# Altium footprint library MK64FN1M0VLQ12.PcbLib: 3 footprints
Each footprint in its own frame and in the unit in brackets; x right, y up, seen from the top. Pads: shape width x height; smd on the part's side, far side on the other; paste and mask are expansions set on the pad; w line width, h text height; cw(c..) or ccw(c..) is an arc to the next point about the centre after c.
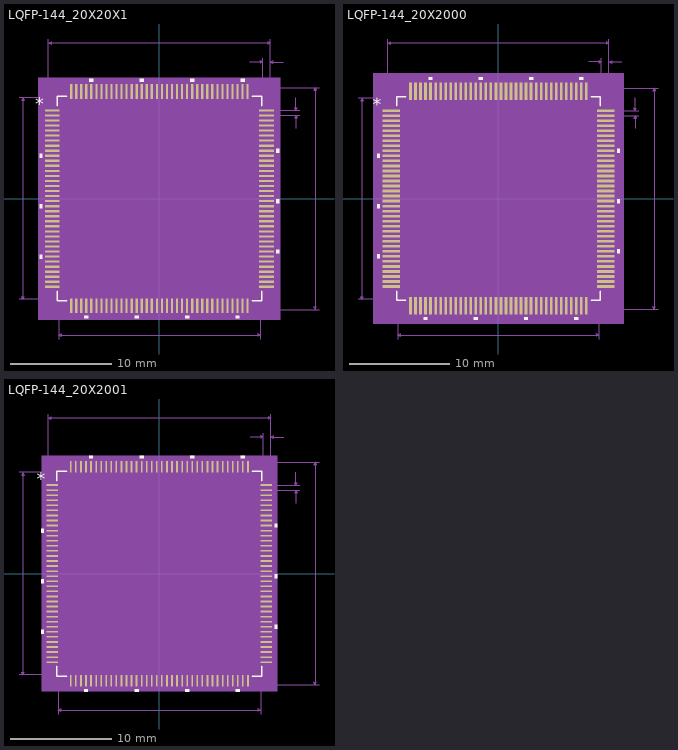
[diagram p0: the footprints below, top view; thin cyan lines are the x and y axes]

## LQFP-144_20X20X1 [mm]
pads (144):
  rect 1.461x0.219 smd paste+0 mask+0: 1(-10.625,8.75) 2(-10.625,8.25) 3(-10.625,7.75) 4(-10.625,7.25) 5(-10.625,6.75) 6(-10.625,6.25) 7(-10.625,5.75) 8(-10.625,5.25) 9(-10.625,4.75) 10(-10.625,4.25) 11(-10.625,3.75) 12(-10.625,3.25) 13(-10.625,2.75) 14(-10.625,2.25) 15(-10.625,1.75) 16(-10.625,1.25) 17(-10.625,0.75) 18(-10.625,0.25) 19(-10.625,-0.25) 20(-10.625,-0.75) 21(-10.625,-1.25) 22(-10.625,-1.75) 23(-10.625,-2.25) 24(-10.625,-2.75) 25(-10.625,-3.25) 26(-10.625,-3.75) 27(-10.625,-4.25) 28(-10.625,-4.75) 29(-10.625,-5.25) 30(-10.625,-5.75) 31(-10.625,-6.25) 32(-10.625,-6.75) 33(-10.625,-7.25) 34(-10.625,-7.75) 35(-10.625,-8.25) 36(-10.625,-8.75) 73(10.625,-8.75) 74(10.625,-8.25) 75(10.625,-7.75) 76(10.625,-7.25) 77(10.625,-6.75) 78(10.625,-6.25) 79(10.625,-5.75) 80(10.625,-5.25) 81(10.625,-4.75) 82(10.625,-4.25) 83(10.625,-3.75) 84(10.625,-3.25) 85(10.625,-2.75) 86(10.625,-2.25) 87(10.625,-1.75) 88(10.625,-1.25) 89(10.625,-0.75) 90(10.625,-0.25) 91(10.625,0.25) 92(10.625,0.75) 93(10.625,1.25) 94(10.625,1.75) 95(10.625,2.25) 96(10.625,2.75) 97(10.625,3.25) 98(10.625,3.75) 99(10.625,4.25) 100(10.625,4.75) 101(10.625,5.25) 102(10.625,5.75) 103(10.625,6.25) 104(10.625,6.75) 105(10.625,7.25) 106(10.625,7.75) 107(10.625,8.25) 108(10.625,8.75)
  rect 0.219x1.461 smd paste+0 mask+0: 37(-8.75,-10.625) 38(-8.25,-10.625) 39(-7.75,-10.625) 40(-7.25,-10.625) 41(-6.75,-10.625) 42(-6.25,-10.625) 43(-5.75,-10.625) 44(-5.25,-10.625) 45(-4.75,-10.625) 46(-4.25,-10.625) 47(-3.75,-10.625) 48(-3.25,-10.625) 49(-2.75,-10.625) 50(-2.25,-10.625) 51(-1.75,-10.625) 52(-1.25,-10.625) 53(-0.75,-10.625) 54(-0.25,-10.625) 55(0.25,-10.625) 56(0.75,-10.625) 57(1.25,-10.625) 58(1.75,-10.625) 59(2.25,-10.625) 60(2.75,-10.625) 61(3.25,-10.625) 62(3.75,-10.625) 63(4.25,-10.625) 64(4.75,-10.625) 65(5.25,-10.625) 66(5.75,-10.625) 67(6.25,-10.625) 68(6.75,-10.625) 69(7.25,-10.625) 70(7.75,-10.625) 71(8.25,-10.625) 72(8.75,-10.625) 109(8.75,10.625) 110(8.25,10.625) 111(7.75,10.625) 112(7.25,10.625) 113(6.75,10.625) 114(6.25,10.625) 115(5.75,10.625) 116(5.25,10.625) 117(4.75,10.625) 118(4.25,10.625) 119(3.75,10.625) 120(3.25,10.625) 121(2.75,10.625) 122(2.25,10.625) 123(1.75,10.625) 124(1.25,10.625) 125(0.75,10.625) 126(0.25,10.625) 127(-0.25,10.625) 128(-0.75,10.625) 129(-1.25,10.625) 130(-1.75,10.625) 131(-2.25,10.625) 132(-2.75,10.625) 133(-3.25,10.625) 134(-3.75,10.625) 135(-4.25,10.625) 136(-4.75,10.625) 137(-5.25,10.625) 138(-5.75,10.625) 139(-6.25,10.625) 140(-6.75,10.625) 141(-7.25,10.625) 142(-7.75,10.625) 143(-8.25,10.625) 144(-8.75,10.625)
Top Overlay:
  region: -11.61,4.44 -11.864,4.44 -11.864,4.059 -11.61,4.059
  region: -11.61,-0.56 -11.864,-0.56 -11.864,-0.941 -11.61,-0.941
  region: -11.61,-5.56 -11.864,-5.56 -11.864,-5.941 -11.61,-5.941
  region: -7.06,-11.61 -7.441,-11.61 -7.441,-11.864 -7.06,-11.864
  region: -2.06,-11.61 -2.441,-11.61 -2.441,-11.864 -2.06,-11.864
  region: 2.94,-11.61 2.559,-11.61 2.559,-11.864 2.94,-11.864
  region: 7.94,-11.61 7.559,-11.61 7.559,-11.864 7.94,-11.864
  region: 11.61,-5.059 11.864,-5.059 11.864,-5.44 11.61,-5.44
  region: 11.61,-0.059 11.864,-0.059 11.864,-0.44 11.61,-0.44
  region: 11.61,4.941 11.864,4.941 11.864,4.56 11.61,4.56
  region: 8.441,11.61 8.06,11.61 8.06,11.864 8.441,11.864
  region: 3.441,11.61 3.06,11.61 3.06,11.864 3.441,11.864
  region: -1.559,11.61 -1.94,11.61 -1.94,11.864 -1.559,11.864
  region: -6.559,11.61 -6.94,11.61 -6.94,11.864 -6.559,11.864
  lines w0.152: -10.127,-9.192 -10.127,-10.127 -9.192,-10.127 ; -10.127,9.192 -10.127,10.127 -9.192,10.127 ; 9.192,-10.127 10.127,-10.127 10.127,-9.192 ; 9.192,10.127 10.127,10.127 10.127,9.192
  text "*" at -12.308,8.746 h1.27
Mechanical 5:
  region: 11.991,-11.991 -11.991,-11.991 -11.991,11.991 11.991,11.991
Mechanical 7:
  lines w0.025: -13.921,-10 -8.75,-10 ; -13.921,10 -8.75,10 ; -11,8.75 -11,15.826 ; -10,-13.921 -10,-8.75 ; 8.75,-11 15.826,-11 ; 8.75,11 15.826,11 ; 8.98,13.54 10.25,13.54 ; 10,-13.921 10,-8.75 ; 10.25,8.75 10.25,13.921 ; 10.625,8.25 13.921,8.25 ; 10.625,8.75 13.921,8.75 ; 11,13.921 11,8.75 11,15.826 ; 12.27,13.54 11,13.54 ; 13.54,6.98 13.54,8.25 ; 13.54,10.02 13.54,8.75 ; -13.54,-10 -13.54,10 ; -13.54,-10 -13.667,-9.746 -13.413,-9.746 -13.54,-10 ; -13.54,10 -13.667,9.746 -13.413,9.746 -13.54,10 ; -11,15.445 11,15.445 ; -11,15.445 -10.746,15.572 -10.746,15.318 -11,15.445 ; -10,-13.54 10,-13.54 ; -10,-13.54 -9.746,-13.413 -9.746,-13.667 -10,-13.54 ; 10,-13.54 9.746,-13.413 9.746,-13.667 10,-13.54 ; 10.25,13.54 9.996,13.667 9.996,13.413 10.25,13.54 ; 11,13.54 11.254,13.667 11.254,13.413 11,13.54 ; 11,15.445 10.746,15.572 10.746,15.318 11,15.445 ; 13.54,8.25 13.413,7.996 13.667,7.996 13.54,8.25 ; 13.54,8.75 13.413,9.004 13.667,9.004 13.54,8.75 ; 15.445,-11 15.445,11 ; 15.445,-11 15.318,-10.746 15.572,-10.746 15.445,-11 ; 15.445,11 15.318,10.746 15.572,10.746 15.445,11
  text "Default Horiz Padstyle: RX8p63Y57p53D0T" at -12.383,-17.35 h1.27
  text "Default Vert Padstyle: RX8p63Y57p53D0T" at -12.065,-18.874 h1.27
  text "Alt 1 Padstyle: OX60Y90D30P" at -8.572,-23.446 h1.27
  text "Alt 2 Padstyle: OX90Y60D30P" at -8.572,-24.97 h1.27
  text "0.02in/0.5mm" at 14.048,8.183 h0.64
  text "0.03in/0.75mm" at 8.561,14.048 h0.64
  text "0.866in/22mm" at -1.905,15.953 h0.64
  text "0.787in/20mm" at -1.905,-14.683 h0.64
  text "0.787in/20mm" at -17.858,-0.318 h0.64
  text "0.866in/22mm" at 15.953,-0.318 h0.64
Mechanical 13:
  drawing of 585 lines, arcs and shapes, not listed
  text "*" at -9.937,8.365 h1.27
Mechanical 15:
  region: -9.114,-10.254 -10.254,-10.254 -10.254,-9.114 -11.61,-9.114 -11.61,9.114 -10.254,9.114 -10.254,10.254 -9.114,10.254 -9.114,11.61 9.114,11.61 9.114,10.254 10.254,10.254 10.254,9.114 11.61,9.114 11.61,-9.114 10.254,-9.114 10.254,-10.254 9.114,-10.254 9.114,-11.61 -9.114,-11.61
  lines w0.152: -11.61,-9.114 -10.254,-9.114 -10.254,-10.254 -9.114,-10.254 -9.114,-11.61 9.114,-11.61 9.114,-10.254 10.254,-10.254 10.254,-9.114 11.61,-9.114 11.61,9.114 10.254,9.114 10.254,10.254 9.114,10.254 9.114,11.61 -9.114,11.61 -9.114,10.254 -10.254,10.254 -10.254,9.114 -11.61,9.114 -11.61,-9.114
3D body: height 0.25, standoff 0, extent 0,0 0.254,0.254

## LQFP-144_20X2000 [mm]
pads (144):
  rect 1.766x0.27 smd paste+0 mask+0: 1(-10.676,8.75) 2(-10.676,8.25) 3(-10.676,7.75) 4(-10.676,7.25) 5(-10.676,6.75) 6(-10.676,6.25) 7(-10.676,5.75) 8(-10.676,5.25) 9(-10.676,4.75) 10(-10.676,4.25) 11(-10.676,3.75) 12(-10.676,3.25) 13(-10.676,2.75) 14(-10.676,2.25) 15(-10.676,1.75) 16(-10.676,1.25) 17(-10.676,0.75) 18(-10.676,0.25) 19(-10.676,-0.25) 20(-10.676,-0.75) 21(-10.676,-1.25) 22(-10.676,-1.75) 23(-10.676,-2.25) 24(-10.676,-2.75) 25(-10.676,-3.25) 26(-10.676,-3.75) 27(-10.676,-4.25) 28(-10.676,-4.75) 29(-10.676,-5.25) 30(-10.676,-5.75) 31(-10.676,-6.25) 32(-10.676,-6.75) 33(-10.676,-7.25) 34(-10.676,-7.75) 35(-10.676,-8.25) 36(-10.676,-8.75) 73(10.676,-8.75) 74(10.676,-8.25) 75(10.676,-7.75) 76(10.676,-7.25) 77(10.676,-6.75) 78(10.676,-6.25) 79(10.676,-5.75) 80(10.676,-5.25) 81(10.676,-4.75) 82(10.676,-4.25) 83(10.676,-3.75) 84(10.676,-3.25) 85(10.676,-2.75) 86(10.676,-2.25) 87(10.676,-1.75) 88(10.676,-1.25) 89(10.676,-0.75) 90(10.676,-0.25) 91(10.676,0.25) 92(10.676,0.75) 93(10.676,1.25) 94(10.676,1.75) 95(10.676,2.25) 96(10.676,2.75) 97(10.676,3.25) 98(10.676,3.75) 99(10.676,4.25) 100(10.676,4.75) 101(10.676,5.25) 102(10.676,5.75) 103(10.676,6.25) 104(10.676,6.75) 105(10.676,7.25) 106(10.676,7.75) 107(10.676,8.25) 108(10.676,8.75)
  rect 0.27x1.766 smd paste+0 mask+0: 37(-8.75,-10.676) 38(-8.25,-10.676) 39(-7.75,-10.676) 40(-7.25,-10.676) 41(-6.75,-10.676) 42(-6.25,-10.676) 43(-5.75,-10.676) 44(-5.25,-10.676) 45(-4.75,-10.676) 46(-4.25,-10.676) 47(-3.75,-10.676) 48(-3.25,-10.676) 49(-2.75,-10.676) 50(-2.25,-10.676) 51(-1.75,-10.676) 52(-1.25,-10.676) 53(-0.75,-10.676) 54(-0.25,-10.676) 55(0.25,-10.676) 56(0.75,-10.676) 57(1.25,-10.676) 58(1.75,-10.676) 59(2.25,-10.676) 60(2.75,-10.676) 61(3.25,-10.676) 62(3.75,-10.676) 63(4.25,-10.676) 64(4.75,-10.676) 65(5.25,-10.676) 66(5.75,-10.676) 67(6.25,-10.676) 68(6.75,-10.676) 69(7.25,-10.676) 70(7.75,-10.676) 71(8.25,-10.676) 72(8.75,-10.676) 109(8.75,10.676) 110(8.25,10.676) 111(7.75,10.676) 112(7.25,10.676) 113(6.75,10.676) 114(6.25,10.676) 115(5.75,10.676) 116(5.25,10.676) 117(4.75,10.676) 118(4.25,10.676) 119(3.75,10.676) 120(3.25,10.676) 121(2.75,10.676) 122(2.25,10.676) 123(1.75,10.676) 124(1.25,10.676) 125(0.75,10.676) 126(0.25,10.676) 127(-0.25,10.676) 128(-0.75,10.676) 129(-1.25,10.676) 130(-1.75,10.676) 131(-2.25,10.676) 132(-2.75,10.676) 133(-3.25,10.676) 134(-3.75,10.676) 135(-4.25,10.676) 136(-4.75,10.676) 137(-5.25,10.676) 138(-5.75,10.676) 139(-6.25,10.676) 140(-6.75,10.676) 141(-7.25,10.676) 142(-7.75,10.676) 143(-8.25,10.676) 144(-8.75,10.676)
Top Overlay:
  region: -11.813,4.44 -12.067,4.44 -12.067,4.059 -11.813,4.059
  region: -11.813,-0.56 -12.067,-0.56 -12.067,-0.941 -11.813,-0.941
  region: -11.813,-5.56 -12.067,-5.56 -12.067,-5.941 -11.813,-5.941
  region: -7.06,-11.813 -7.441,-11.813 -7.441,-12.067 -7.06,-12.067
  region: -2.06,-11.813 -2.441,-11.813 -2.441,-12.067 -2.06,-12.067
  region: 2.94,-11.813 2.559,-11.813 2.559,-12.067 2.94,-12.067
  region: 7.94,-11.813 7.559,-11.813 7.559,-12.067 7.94,-12.067
  region: 11.813,-5.059 12.067,-5.059 12.067,-5.44 11.813,-5.44
  region: 11.813,-0.059 12.067,-0.059 12.067,-0.44 11.813,-0.44
  region: 11.813,4.941 12.067,4.941 12.067,4.56 11.813,4.56
  region: 8.441,11.813 8.06,11.813 8.06,12.067 8.441,12.067
  region: 3.441,11.813 3.06,11.813 3.06,12.067 3.441,12.067
  region: -1.559,11.813 -1.94,11.813 -1.94,12.067 -1.559,12.067
  region: -6.559,11.813 -6.94,11.813 -6.94,12.067 -6.559,12.067
  lines w0.152: -10.127,-9.218 -10.127,-10.127 -9.218,-10.127 ; -10.127,9.218 -10.127,10.127 -9.218,10.127 ; 9.218,-10.127 10.127,-10.127 10.127,-9.218 ; 9.218,10.127 10.127,10.127 10.127,9.218
  text "*" at -12.511,8.746 h1.27
Mechanical 5:
  region: 12.448,-12.448 -12.448,-12.448 -12.448,12.448 12.448,12.448
Mechanical 7:
  lines w0.025: -13.972,-10 -8.75,-10 ; -13.972,10 -8.75,10 ; -11,8.75 -11,15.877 ; -10,-13.972 -10,-8.75 ; 8.75,-11 15.877,-11 ; 8.75,11 15.877,11 ; 8.98,13.591 10.25,13.591 ; 10,-13.972 10,-8.75 ; 10.25,8.75 10.25,13.972 ; 10.676,8.25 13.972,8.25 ; 10.676,8.75 13.972,8.75 ; 11,13.972 11,8.75 11,15.877 ; 12.27,13.591 11,13.591 ; 13.591,6.98 13.591,8.25 ; 13.591,10.02 13.591,8.75 ; -13.591,-10 -13.591,10 ; -13.591,-10 -13.718,-9.746 -13.464,-9.746 -13.591,-10 ; -13.591,10 -13.718,9.746 -13.464,9.746 -13.591,10 ; -11,15.496 11,15.496 ; -11,15.496 -10.746,15.623 -10.746,15.369 -11,15.496 ; -10,-13.591 10,-13.591 ; -10,-13.591 -9.746,-13.464 -9.746,-13.718 -10,-13.591 ; 10,-13.591 9.746,-13.464 9.746,-13.718 10,-13.591 ; 10.25,13.591 9.996,13.718 9.996,13.464 10.25,13.591 ; 11,13.591 11.254,13.718 11.254,13.464 11,13.591 ; 11,15.496 10.746,15.623 10.746,15.369 11,15.496 ; 13.591,8.25 13.464,7.996 13.718,7.996 13.591,8.25 ; 13.591,8.75 13.464,9.004 13.718,9.004 13.591,8.75 ; 15.496,-11 15.496,11 ; 15.496,-11 15.369,-10.746 15.623,-10.746 15.496,-11 ; 15.496,11 15.369,10.746 15.623,10.746 15.496,11
  text "Default Horiz Padstyle: RX10p63Y69p53D0T" at -12.7,-17.401 h1.27
  text "Default Vert Padstyle: RX10p63Y69p53D0T" at -12.383,-18.925 h1.27
  text "Alt 1 Padstyle: OX60Y90D30P" at -8.572,-23.497 h1.27
  text "Alt 2 Padstyle: OX90Y60D30P" at -8.572,-25.021 h1.27
  text "0.02in/0.5mm" at 14.099,8.183 h0.64
  text "0.03in/0.75mm" at 8.561,14.099 h0.64
  text "0.866in/22mm" at -1.905,16.004 h0.64
  text "0.787in/20mm" at -1.905,-14.734 h0.64
  text "0.787in/20mm" at -17.909,-0.318 h0.64
  text "0.866in/22mm" at 16.004,-0.318 h0.64
Mechanical 13:
  drawing of 585 lines, arcs and shapes, not listed
  text "*" at -9.937,8.365 h1.27
Mechanical 15:
  region: -9.393,-10.508 -10.508,-10.508 -10.508,-9.393 -12.067,-9.393 -12.067,9.393 -10.508,9.393 -10.508,10.508 -9.393,10.508 -9.393,12.067 9.393,12.067 9.393,10.508 10.508,10.508 10.508,9.393 12.067,9.393 12.067,-9.393 10.508,-9.393 10.508,-10.508 9.393,-10.508 9.393,-12.067 -9.393,-12.067
  lines w0.152: -12.067,-9.393 -10.508,-9.393 -10.508,-10.508 -9.393,-10.508 -9.393,-12.067 9.393,-12.067 9.393,-10.508 10.508,-10.508 10.508,-9.393 12.067,-9.393 12.067,9.393 10.508,9.393 10.508,10.508 9.393,10.508 9.393,12.067 -9.393,12.067 -9.393,10.508 -10.508,10.508 -10.508,9.393 -12.067,9.393 -12.067,-9.393
3D body: height 0.25, standoff 0, extent 0,0 0.254,0.254

## LQFP-144_20X2001 [mm]
pads (144):
  rect 1.156x0.168 smd paste+0 mask+0: 1(-10.574,8.75) 2(-10.574,8.25) 3(-10.574,7.75) 4(-10.574,7.25) 5(-10.574,6.75) 6(-10.574,6.25) 7(-10.574,5.75) 8(-10.574,5.25) 9(-10.574,4.75) 10(-10.574,4.25) 11(-10.574,3.75) 12(-10.574,3.25) 13(-10.574,2.75) 14(-10.574,2.25) 15(-10.574,1.75) 16(-10.574,1.25) 17(-10.574,0.75) 18(-10.574,0.25) 19(-10.574,-0.25) 20(-10.574,-0.75) 21(-10.574,-1.25) 22(-10.574,-1.75) 23(-10.574,-2.25) 24(-10.574,-2.75) 25(-10.574,-3.25) 26(-10.574,-3.75) 27(-10.574,-4.25) 28(-10.574,-4.75) 29(-10.574,-5.25) 30(-10.574,-5.75) 31(-10.574,-6.25) 32(-10.574,-6.75) 33(-10.574,-7.25) 34(-10.574,-7.75) 35(-10.574,-8.25) 36(-10.574,-8.75) 73(10.574,-8.75) 74(10.574,-8.25) 75(10.574,-7.75) 76(10.574,-7.25) 77(10.574,-6.75) 78(10.574,-6.25) 79(10.574,-5.75) 80(10.574,-5.25) 81(10.574,-4.75) 82(10.574,-4.25) 83(10.574,-3.75) 84(10.574,-3.25) 85(10.574,-2.75) 86(10.574,-2.25) 87(10.574,-1.75) 88(10.574,-1.25) 89(10.574,-0.75) 90(10.574,-0.25) 91(10.574,0.25) 92(10.574,0.75) 93(10.574,1.25) 94(10.574,1.75) 95(10.574,2.25) 96(10.574,2.75) 97(10.574,3.25) 98(10.574,3.75) 99(10.574,4.25) 100(10.574,4.75) 101(10.574,5.25) 102(10.574,5.75) 103(10.574,6.25) 104(10.574,6.75) 105(10.574,7.25) 106(10.574,7.75) 107(10.574,8.25) 108(10.574,8.75)
  rect 0.168x1.156 smd paste+0 mask+0: 37(-8.75,-10.574) 38(-8.25,-10.574) 39(-7.75,-10.574) 40(-7.25,-10.574) 41(-6.75,-10.574) 42(-6.25,-10.574) 43(-5.75,-10.574) 44(-5.25,-10.574) 45(-4.75,-10.574) 46(-4.25,-10.574) 47(-3.75,-10.574) 48(-3.25,-10.574) 49(-2.75,-10.574) 50(-2.25,-10.574) 51(-1.75,-10.574) 52(-1.25,-10.574) 53(-0.75,-10.574) 54(-0.25,-10.574) 55(0.25,-10.574) 56(0.75,-10.574) 57(1.25,-10.574) 58(1.75,-10.574) 59(2.25,-10.574) 60(2.75,-10.574) 61(3.25,-10.574) 62(3.75,-10.574) 63(4.25,-10.574) 64(4.75,-10.574) 65(5.25,-10.574) 66(5.75,-10.574) 67(6.25,-10.574) 68(6.75,-10.574) 69(7.25,-10.574) 70(7.75,-10.574) 71(8.25,-10.574) 72(8.75,-10.574) 109(8.75,10.574) 110(8.25,10.574) 111(7.75,10.574) 112(7.25,10.574) 113(6.75,10.574) 114(6.25,10.574) 115(5.75,10.574) 116(5.25,10.574) 117(4.75,10.574) 118(4.25,10.574) 119(3.75,10.574) 120(3.25,10.574) 121(2.75,10.574) 122(2.25,10.574) 123(1.75,10.574) 124(1.25,10.574) 125(0.75,10.574) 126(0.25,10.574) 127(-0.25,10.574) 128(-0.75,10.574) 129(-1.25,10.574) 130(-1.75,10.574) 131(-2.25,10.574) 132(-2.75,10.574) 133(-3.25,10.574) 134(-3.75,10.574) 135(-4.25,10.574) 136(-4.75,10.574) 137(-5.25,10.574) 138(-5.75,10.574) 139(-6.25,10.574) 140(-6.75,10.574) 141(-7.25,10.574) 142(-7.75,10.574) 143(-8.25,10.574) 144(-8.75,10.574)
Top Overlay:
  region: -11.406,4.44 -11.66,4.44 -11.66,4.059 -11.406,4.059
  region: -11.406,-0.56 -11.66,-0.56 -11.66,-0.941 -11.406,-0.941
  region: -11.406,-5.56 -11.66,-5.56 -11.66,-5.941 -11.406,-5.941
  region: -7.06,-11.406 -7.441,-11.406 -7.441,-11.66 -7.06,-11.66
  region: -2.06,-11.406 -2.441,-11.406 -2.441,-11.66 -2.06,-11.66
  region: 2.94,-11.406 2.559,-11.406 2.559,-11.66 2.94,-11.66
  region: 7.94,-11.406 7.559,-11.406 7.559,-11.66 7.94,-11.66
  region: 11.406,-5.059 11.66,-5.059 11.66,-5.44 11.406,-5.44
  region: 11.406,-0.059 11.66,-0.059 11.66,-0.44 11.406,-0.44
  region: 11.406,4.941 11.66,4.941 11.66,4.56 11.406,4.56
  region: 8.441,11.406 8.06,11.406 8.06,11.66 8.441,11.66
  region: 3.441,11.406 3.06,11.406 3.06,11.66 3.441,11.66
  region: -1.559,11.406 -1.94,11.406 -1.94,11.66 -1.559,11.66
  region: -6.559,11.406 -6.94,11.406 -6.94,11.66 -6.559,11.66
  lines w0.152: -10.127,-9.167 -10.127,-10.127 -9.167,-10.127 ; -10.127,9.167 -10.127,10.127 -9.167,10.127 ; 9.167,-10.127 10.127,-10.127 10.127,-9.167 ; 9.167,10.127 10.127,10.127 10.127,9.167
  text "*" at -12.105,8.746 h1.27
Mechanical 5:
  region: 11.635,-11.635 -11.635,-11.635 -11.635,11.635 11.635,11.635
Mechanical 7:
  lines w0.025: -13.87,-10 -8.75,-10 ; -13.87,10 -8.75,10 ; -11,8.75 -11,15.775 ; -10,-13.87 -10,-8.75 ; 8.75,-11 15.775,-11 ; 8.75,11 15.775,11 ; 8.98,13.489 10.25,13.489 ; 10,-13.87 10,-8.75 ; 10.25,8.75 10.25,13.87 ; 10.574,8.25 13.87,8.25 ; 10.574,8.75 13.87,8.75 ; 11,13.87 11,8.75 11,15.775 ; 12.27,13.489 11,13.489 ; 13.489,6.98 13.489,8.25 ; 13.489,10.02 13.489,8.75 ; -13.489,-10 -13.489,10 ; -13.489,-10 -13.616,-9.746 -13.362,-9.746 -13.489,-10 ; -13.489,10 -13.616,9.746 -13.362,9.746 -13.489,10 ; -11,15.394 11,15.394 ; -11,15.394 -10.746,15.521 -10.746,15.267 -11,15.394 ; -10,-13.489 10,-13.489 ; -10,-13.489 -9.746,-13.362 -9.746,-13.616 -10,-13.489 ; 10,-13.489 9.746,-13.362 9.746,-13.616 10,-13.489 ; 10.25,13.489 9.996,13.616 9.996,13.362 10.25,13.489 ; 11,13.489 11.254,13.616 11.254,13.362 11,13.489 ; 11,15.394 10.746,15.521 10.746,15.267 11,15.394 ; 13.489,8.25 13.362,7.996 13.616,7.996 13.489,8.25 ; 13.489,8.75 13.362,9.004 13.616,9.004 13.489,8.75 ; 15.394,-11 15.394,11 ; 15.394,-11 15.267,-10.746 15.521,-10.746 15.394,-11 ; 15.394,11 15.267,10.746 15.521,10.746 15.394,11
  text "Default Horiz Padstyle: RX6p63Y45p53D0T" at -12.383,-17.299 h1.27
  text "Default Vert Padstyle: RX6p63Y45p53D0T" at -12.065,-18.823 h1.27
  text "Alt 1 Padstyle: OX60Y90D30P" at -8.572,-23.395 h1.27
  text "Alt 2 Padstyle: OX90Y60D30P" at -8.572,-24.919 h1.27
  text "0.02in/0.5mm" at 13.997,8.183 h0.64
  text "0.03in/0.75mm" at 8.561,13.997 h0.64
  text "0.866in/22mm" at -1.905,15.902 h0.64
  text "0.787in/20mm" at -1.905,-14.632 h0.64
  text "0.787in/20mm" at -17.807,-0.318 h0.64
  text "0.866in/22mm" at 15.902,-0.318 h0.64
Mechanical 13:
  drawing of 585 lines, arcs and shapes, not listed
  text "*" at -9.937,8.365 h1.27
Mechanical 15:
  region: -8.936,-10.102 -10.102,-10.102 -10.102,-8.936 -11.254,-8.936 -11.254,8.936 -10.102,8.936 -10.102,10.102 -8.936,10.102 -8.936,11.254 8.936,11.254 8.936,10.102 10.102,10.102 10.102,8.936 11.254,8.936 11.254,-8.936 10.102,-8.936 10.102,-10.102 8.936,-10.102 8.936,-11.254 -8.936,-11.254
  lines w0.152: -11.254,-8.936 -10.102,-8.936 -10.102,-10.102 -8.936,-10.102 -8.936,-11.254 8.936,-11.254 8.936,-10.102 10.102,-10.102 10.102,-8.936 11.254,-8.936 11.254,8.936 10.102,8.936 10.102,10.102 8.936,10.102 8.936,11.254 -8.936,11.254 -8.936,10.102 -10.102,10.102 -10.102,8.936 -11.254,8.936 -11.254,-8.936
3D body: height 0.25, standoff 0, extent 0,0 0.254,0.254